# EAGLE library part CP2102N (library nixiemisc)
USB to UART converter with battery charging detection
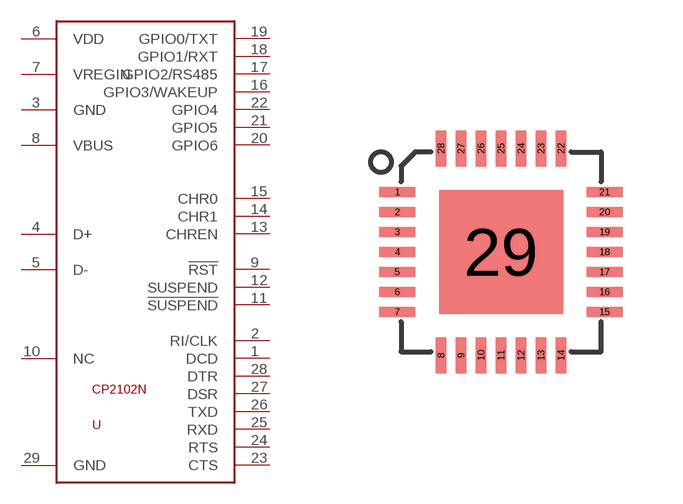
[diagram p5: symbol with the pads of QFN28G_0.5-5X5MM; footprint QFN28G_0.5-5X5MM]

Designator prefix U

## CP2102N  [QFN28G_0.5-5X5MM]
1  DCD  in
2  RI/CLK
3  GND  pwr
4  D+  in
5  D-  in
6  VDD  pwr
7  VREGIN  pwr
8  VBUS  pwr
9  !RST!
10  NC  nc
11  !SUSPEND!  out
12  SUSPEND  out
13  CHREN  out
14  CHR1  out
15  CHR0  out
16  GPIO3/WAKEUP
17  GPIO2/RS485
18  GPIO1/RXT
19  GPIO0/TXT
20  GPIO6
21  GPIO5
22  GPIO4
23  CTS  in
24  RTS  out
25  RXD  in
26  TXD  out
27  DSR  in
28  DTR  out
29  GND  pwr

## Footprint QFN28G_0.5-5X5MM (pad centres in mm)
smd 0.9 x 0.254: 1 -2.59,1.5; 2 -2.59,1; 3 -2.59,0.5; 4 -2.59,0; 5 -2.59,-0.5; 6 -2.59,-1; 7 -2.59,-1.5; 15 2.59,-1.5; 16 2.59,-1; 17 2.59,-0.5; 18 2.59,0; 19 2.59,0.5; 20 2.59,1; 21 2.59,1.5
smd 0.254 x 0.9: 8 -1.5,-2.59; 9 -1,-2.59; 10 -0.5,-2.59; 11 0,-2.59; 12 0.5,-2.59; 13 1,-2.59; 14 1.5,-2.59; 22 1.5,2.59; 23 1,2.59; 24 0.5,2.59; 25 0,2.59; 26 -0.5,2.59; 27 -1,2.59; 28 -1.5,2.59
smd 3.1 x 3.1: 29 0,0